# Altium schematic symbol library Passive.SchLib: 12 symbols
Pins are listed as number, name and electrical type; pins without a type are passive.

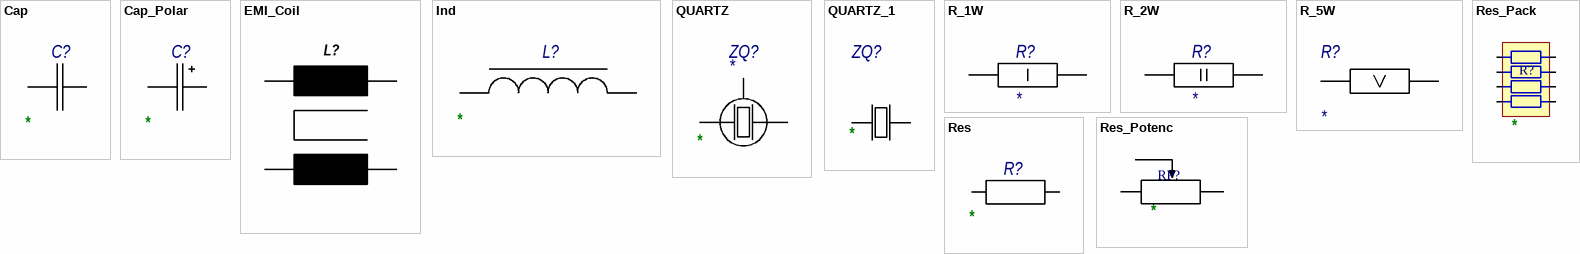
[diagram p0: symbols Cap to Res_Potenc]

## Cap
designator C?
Конденсатор неполярный; ValueDescription: *; ValueManufacturer: *; ValueManufacturerPartNumber: *; ValueType: *; TKE: *; Value: *
pins: 1, 2

## Cap_Polar
designator C?
Конденсатор полярный; ValueDescription: *; ValueManufacturer: *; ValueManufacturerPartNumber: *; ValueType: *; Value: *
pins: +, -

## EMI_Coil
designator L?  (value not drawn)
EMI coil; ValueManufacturerPartNumber: *; ValueManufacturer: *; ValueDescription: *; ValueType: *
pins: 1, 2, 3, 4

## Ind
designator L?
ValueDescription: *; ValueManufacturer: *; ValueManufacturerPartNumber: *; ValueType: *; Value: *
pins: 1, 2

## QUARTZ
designator ZQ?
ValueDescription: *; ValueManufacturer: *; ValueType: *; Value: *; ValueManufacturerPartNumber: *
pins: 1, 2, 3

## QUARTZ_1
designator ZQ?
ValueDescription: *; ValueManufacturer: *; ValueType: *; Value: *; ValueManufacturerPartNumber: *
pins: 1, 2

## R_1W
designator R?
pins: 1, 2

## R_2W
designator R?
pins: 1, 2

## R_5W
designator R?
pins: 1, 2

## Res
designator R?
Резистор; ValueDescription: *; ValueManufacturer: *; ValueManufacturerPartNumber: *; ValueType: *; Value: *
pins: 1, 2

## Res_Pack
designator R?
Резисторная сборка; ValueDescription: *; ValueManufacturer: *; ValueManufacturerPartNumber: *; ValueType: *; Value: *
pins: 1, 2, 3, 4, 5, 6, 7, 8

## Res_Potenc
designator RP?
Подстроечный резистор; ValueDescription: *; ValueManufacturer: *; ValueManufacturerPartNumber: *; ValueType: *; Value: *
pins: 1, 2, 3